# EAGLE library part SMD-OPTOISOLATOR-7.5KV-TRIAC(6P-8.5X6.4X3.4MM) (library Seeed-OPL-crystal-osctllator)
306040003
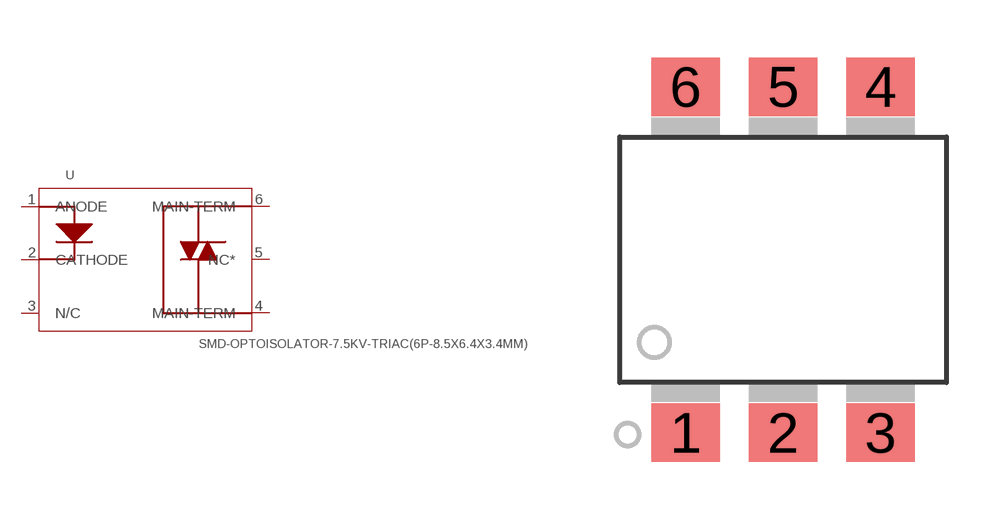
[diagram p1: symbol with the pads of SOP6-2.54-8.5X6.4X3.4MM; footprint SOP6-2.54-8.5X6.4X3.4MM]

Designator prefix U

## SMD-OPTOISOLATOR-7.5KV-TRIAC(6P-8.5X6.4X3.4MM) (MPN: MOC3063SR2M; VALUE: MOC3063SR2M)  [SOP6-2.54-8.5X6.4X3.4MM]
1  ANODE
2  CATHODE
3  N/C  nc
4  MAIN-TERM
5  NC*  nc
6  MAIN-TERM

## Footprint SOP6-2.54-8.5X6.4X3.4MM (pad centres in mm)
smd 1.78 x 1.52: 1 -2.54,-4.505; 2 0,-4.505; 3 2.54,-4.505; 4 2.54,4.505; 5 0,4.505; 6 -2.54,4.505